# Altium schematic symbol library SML-H12V8TT86C.SchLib: 1 symbol
Pins are listed as number, name and electrical type; pins without a type are passive.

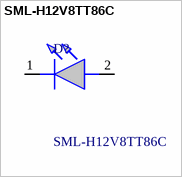
[diagram p0: symbol SML-H12V8TT86C]

## SML-H12V8TT86C
designator D?
Standard LEDs - SMD Standard LEDs - SMD Red 630nm 25mcd 2.2V ; 20mA; 0805 AECQ-101; Manufacturer_Name: ROHM Semiconductor; Geometry.Height: 0.8mm; Mouser Part Number: 755-SML-H12V8TT86C; Mouser Price/Stock: https://www.mouser.co.uk/ProductDetail/ROHM-Semiconductor/SML-H12V8TT86C?qs=HXFqYaX1Q2xM3o6aiCqz5g%3D%3D; Manufacturer_Part_Number: SML-H12V8TT86C; Datasheet Link: https://www.mouser.in/ProductDetail/ROHM-Semiconductor/SML-H12V8TT86C?qs=HXFqYaX1Q2xM3o6aiCqz5g%3D%3D
footprint LEDC2012X80N
pins: 1 K, 2 A